# EAGLE library part OSTVN06A150 (library smoothio)
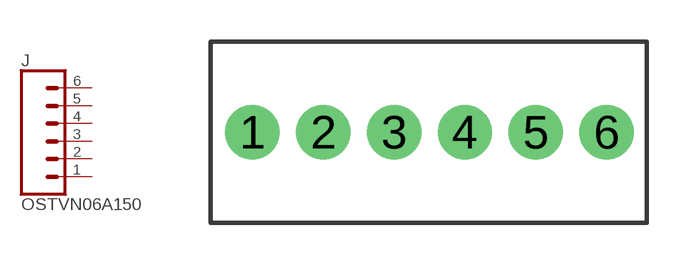
[diagram p2: symbol with the pads of 6PIN_SCREW_TERMINAL; footprint 6PIN_SCREW_TERMINAL]

Designator prefix J

## OSTVN06A150  [6PIN_SCREW_TERMINAL]
1  1  pas
2  2  pas
3  3  pas
4  4  pas
5  5  pas
6  6  pas

## Footprint 6PIN_SCREW_TERMINAL (pad centres in mm)
drill 1.3: 1 1.5,3.25; 2 4.04,3.25; 3 6.58,3.25; 4 9.12,3.25; 5 11.66,3.25; 6 14.2,3.25